# Altium footprint library WE-SHC.PcbLib: 139 footprints (part 3 of 10)
Each footprint in its own frame and in the unit in brackets; x right, y up, seen from the top. Pads: shape width x height; smd on the part's side, far side on the other; paste and mask are expansions set on the pad; w line width, h text height; cw(c..) or ccw(c..) is an arc to the next point about the centre after c.
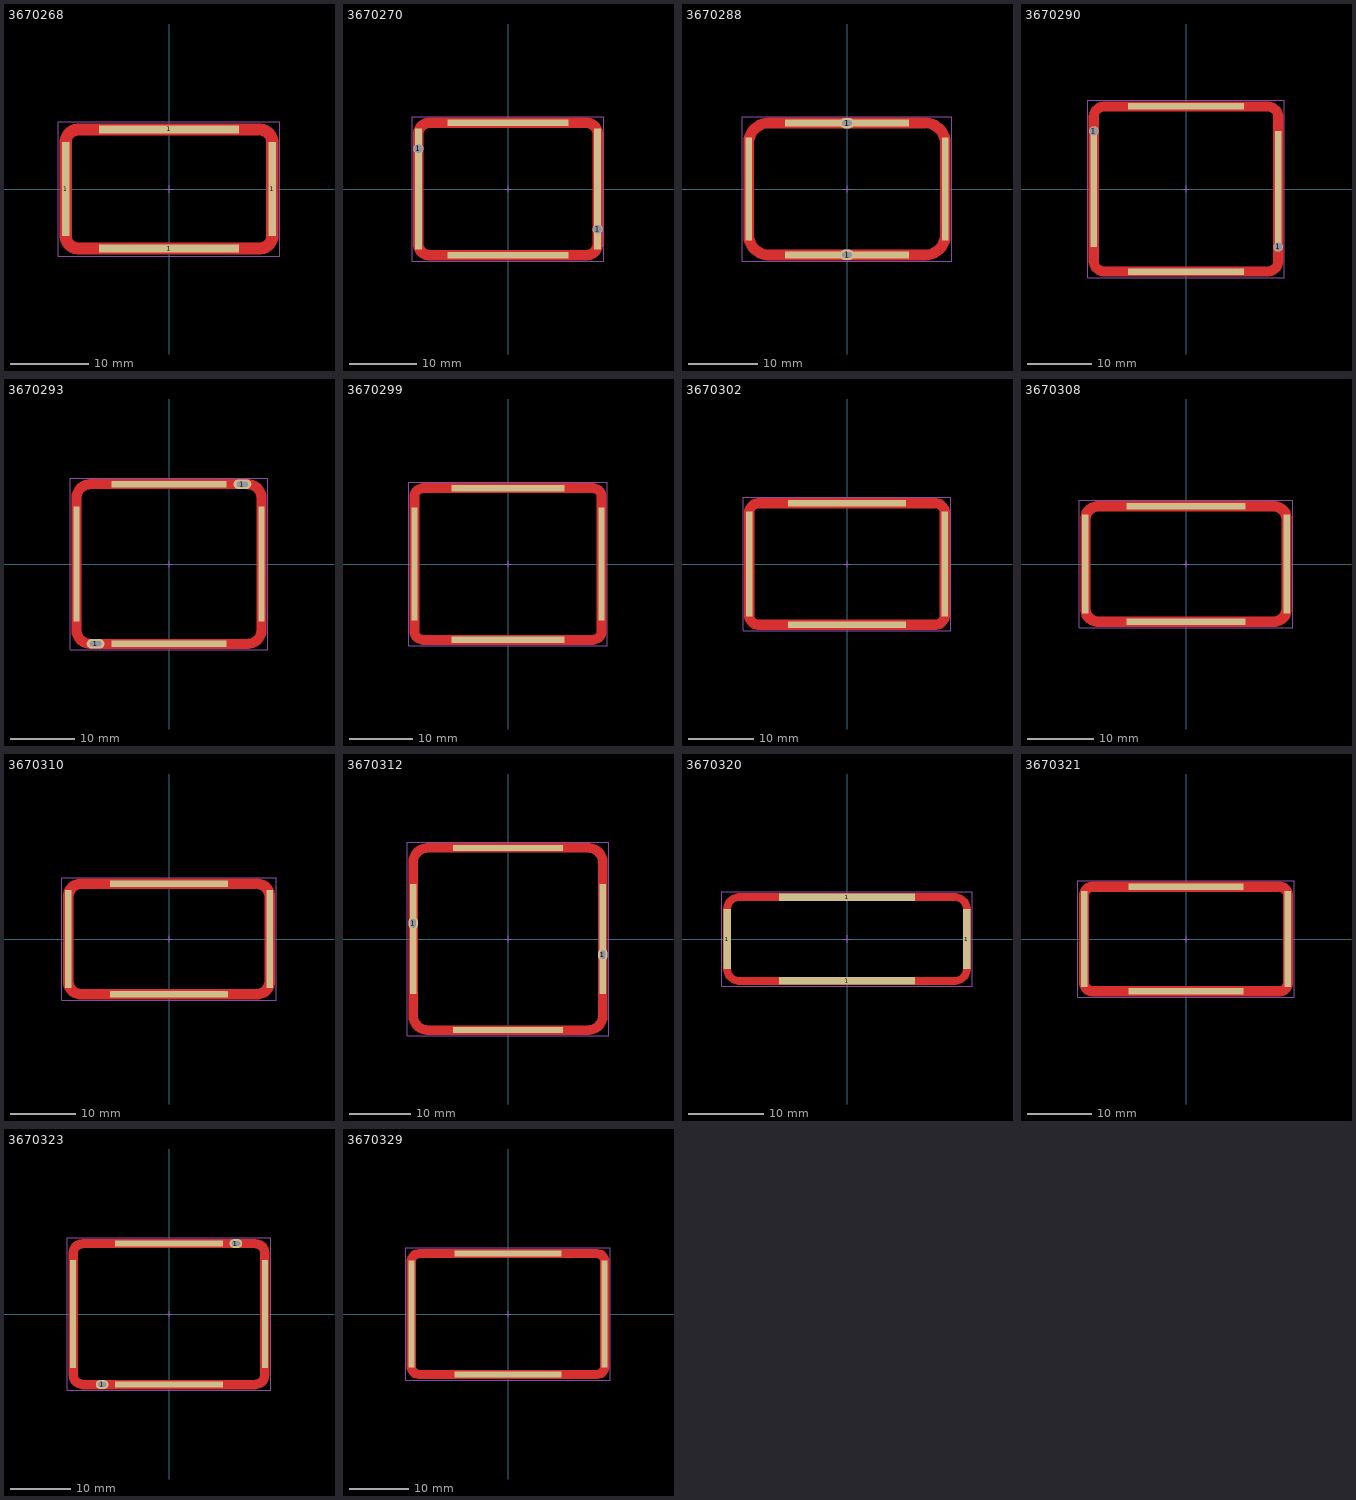
[diagram p2: the footprints below, top view; thin cyan lines are the x and y axes]

## 3670268 [mm] "Shielding Cabinet, SMT Frame Seamless, 26.8x15.6x2.5mm"
height 2.5
pads (4):
  rect 1x12 smd paste-2539.97 mask-2222: 1(-13.25,0) 1(13.25,0)
  rect 18x1 smd paste-2539.97 mask-2222: 1(0,-7.65) 1(0,7.65)
Top Layer:
  region: -14,-1 -14,6 -14,6.236 -13.908,6.7 -13.727,7.137 -13.464,7.53 -13.13,7.864 -12.737,8.127 -12.3,8.308 -11.836,8.4 -11.6,8.4 11.6,8.4 11.836,8.4 12.3,8.308 12.737,8.127 13.13,7.864 13.464,7.53 13.727,7.137 13.908,6.7 14,6.236 14,6 14,-1 12.5,-1 12.5,6 12.496,6.088 12.461,6.261 12.394,6.424 12.296,6.571 12.171,6.696 12.024,6.794 11.861,6.861 11.688,6.896 11.6,6.9 -11.6,6.9 -11.688,6.896 -11.861,6.861 -12.024,6.794 -12.171,6.696 -12.296,6.571 -12.394,6.424 -12.461,6.261 -12.496,6.088 -12.5,6 -12.5,-1
  region: -14,-0.25 -14,-6 -14,-6.236 -13.908,-6.7 -13.727,-7.137 -13.464,-7.53 -13.13,-7.864 -12.737,-8.127 -12.3,-8.308 -11.836,-8.4 -11.6,-8.4 11.6,-8.4 11.836,-8.4 12.3,-8.308 12.737,-8.127 13.13,-7.864 13.464,-7.53 13.727,-7.137 13.908,-6.7 14,-6.236 14,-6 14,-0.25 12.5,-0.25 12.5,-6 12.496,-6.088 12.461,-6.261 12.394,-6.424 12.296,-6.571 12.171,-6.696 12.024,-6.794 11.861,-6.861 11.688,-6.896 11.6,-6.9 -11.6,-6.9 -11.688,-6.896 -11.861,-6.861 -12.024,-6.794 -12.171,-6.696 -12.296,-6.571 -12.394,-6.424 -12.461,-6.261 -12.496,-6.088 -12.5,-6 -12.5,-0.25
Top Paste:
  region: -14,-0.25 -14,-6 -14,-6.236 -13.908,-6.7 -13.727,-7.137 -13.464,-7.53 -13.13,-7.864 -12.737,-8.127 -12.3,-8.308 -11.836,-8.4 -11.6,-8.4 11.6,-8.4 11.836,-8.4 12.3,-8.308 12.737,-8.127 13.13,-7.864 13.464,-7.53 13.727,-7.137 13.908,-6.7 14,-6.236 14,-6 14,-0.25 12.5,-0.25 12.5,-6 12.496,-6.088 12.461,-6.261 12.394,-6.424 12.296,-6.571 12.171,-6.696 12.024,-6.794 11.861,-6.861 11.688,-6.896 11.6,-6.9 -11.6,-6.9 -11.688,-6.896 -11.861,-6.861 -12.024,-6.794 -12.171,-6.696 -12.296,-6.571 -12.394,-6.424 -12.461,-6.261 -12.496,-6.088 -12.5,-6 -12.5,-0.25
  region: -14,0.25 -14,6 -14,6.236 -13.908,6.7 -13.727,7.137 -13.464,7.53 -13.13,7.864 -12.737,8.127 -12.3,8.308 -11.836,8.4 -11.6,8.4 11.6,8.4 11.836,8.4 12.3,8.308 12.737,8.127 13.13,7.864 13.464,7.53 13.727,7.137 13.908,6.7 14,6.236 14,6 14,0.25 12.5,0.25 12.5,6 12.496,6.088 12.461,6.261 12.394,6.424 12.296,6.571 12.171,6.696 12.024,6.794 11.861,6.861 11.688,6.896 11.6,6.9 -11.6,6.9 -11.688,6.896 -11.861,6.861 -12.024,6.794 -12.171,6.696 -12.296,6.571 -12.394,6.424 -12.461,6.261 -12.496,6.088 -12.5,6 -12.5,0.25
Assembly Notes:
  text "recommended tin paste thickness=0.5mm / customer to define the final stencil gap" at -5,-10 h0.4
Top Component Outline:
  lines w0.1: -13.4,-6.05 ccw(c-11.65,-6.05) -11.65,-7.8 11.65,-7.8 ccw(c11.65,-6.05) 13.4,-6.05 13.4,6.05 ccw(c11.65,6.05) 11.65,7.8 -11.65,7.8 ccw(c-11.65,6.05) -13.4,6.05 -13.4,-6.05
Top 3D Body:
  lines w0.1: -13.4,-6.05 ccw(c-11.65,-6.05) -11.65,-7.8 11.65,-7.8 ccw(c11.65,-6.05) 13.4,-6.05 13.4,6.05 ccw(c11.65,6.05) 11.65,7.8 -11.65,7.8 ccw(c-11.65,6.05) -13.4,6.05 -13.4,-6.05
Top Courtyard:
  lines w0.05: -14.2,-8.6 -14.2,8.6 14.2,8.6 14.2,-8.6 -14.2,-8.6
Top Component Center:
  lines w0.05: -0.5,0 0.5,0 ; 0,-0.5 0,0.5
Top Designator (Mech19):
  text ".Designator" at -7.498,-0.5 h1.5
3D body "3670268.stp": height 2.5, standoff 0, extent -13.4,-7.8 13.4,7.8

## 3670270 [mm] "Shielding Cabinet, SMT Frame Seamless, 27x20x6mm"
height 6
pads (6):
  rect 1x18 smd paste-2539.97 mask-2222: 1(-13.35,0) 1(13.35,0)
  round 1.5 hole 1.3: 1(-13.35,6) 1(13.35,-6)
  rect 18x1 smd paste-2539.97 mask-2222: 1(0,-9.85) 1(0,9.85)
Top Layer:
  region: 14.1,-8.2 14.1,8.2 14.1,8.436 14.008,8.9 13.827,9.337 13.564,9.73 13.23,10.064 12.837,10.327 12.4,10.508 11.936,10.6 11.7,10.6 0.25,10.6 0.25,9.1 11.7,9.1 11.788,9.096 11.961,9.061 12.124,8.994 12.271,8.896 12.396,8.771 12.494,8.624 12.561,8.461 12.596,8.288 12.6,8.2 12.6,-8.2 12.596,-8.288 12.561,-8.461 12.494,-8.624 12.396,-8.771 12.271,-8.896 12.124,-8.994 11.961,-9.061 11.788,-9.096 11.7,-9.1 0.25,-9.1 0.25,-10.6 11.7,-10.6 11.936,-10.6 12.4,-10.508 12.837,-10.327 13.23,-10.064 13.564,-9.73 13.827,-9.337 14.008,-8.9 14.1,-8.436
  region: -14.1,-8.2 -14.1,8.2 -14.1,8.436 -14.008,8.9 -13.827,9.337 -13.564,9.73 -13.23,10.064 -12.837,10.327 -12.4,10.508 -11.936,10.6 -11.7,10.6 1,10.6 1,9.1 -11.7,9.1 -11.788,9.096 -11.961,9.061 -12.124,8.994 -12.271,8.896 -12.396,8.771 -12.494,8.624 -12.561,8.461 -12.596,8.288 -12.6,8.2 -12.6,-8.2 -12.596,-8.288 -12.561,-8.461 -12.494,-8.624 -12.396,-8.771 -12.271,-8.896 -12.124,-8.994 -11.961,-9.061 -11.788,-9.096 -11.7,-9.1 1,-9.1 1,-10.6 -11.7,-10.6 -11.936,-10.6 -12.4,-10.508 -12.837,-10.327 -13.23,-10.064 -13.564,-9.73 -13.827,-9.337 -14.008,-8.9 -14.1,-8.436
Top Paste:
  region: -14.1,-8.2 -14.1,8.2 -14.1,8.436 -14.008,8.9 -13.827,9.337 -13.564,9.73 -13.23,10.064 -12.837,10.327 -12.4,10.508 -11.936,10.6 -11.7,10.6 -0.25,10.6 -0.25,9.1 -11.7,9.1 -11.788,9.096 -11.961,9.061 -12.124,8.994 -12.271,8.896 -12.396,8.771 -12.494,8.624 -12.561,8.461 -12.596,8.288 -12.6,8.2 -12.6,-8.2 -12.596,-8.288 -12.561,-8.461 -12.494,-8.624 -12.396,-8.771 -12.271,-8.896 -12.124,-8.994 -11.961,-9.061 -11.788,-9.096 -11.7,-9.1 -0.25,-9.1 -0.25,-10.6 -11.7,-10.6 -11.936,-10.6 -12.4,-10.508 -12.837,-10.327 -13.23,-10.064 -13.564,-9.73 -13.827,-9.337 -14.008,-8.9 -14.1,-8.436
  region: 14.1,-8.2 14.1,8.2 14.1,8.436 14.008,8.9 13.827,9.337 13.564,9.73 13.23,10.064 12.837,10.327 12.4,10.508 11.936,10.6 11.7,10.6 0.25,10.6 0.25,9.1 11.7,9.1 11.788,9.096 11.961,9.061 12.124,8.994 12.271,8.896 12.396,8.771 12.494,8.624 12.561,8.461 12.596,8.288 12.6,8.2 12.6,-8.2 12.596,-8.288 12.561,-8.461 12.494,-8.624 12.396,-8.771 12.271,-8.896 12.124,-8.994 11.961,-9.061 11.788,-9.096 11.7,-9.1 0.25,-9.1 0.25,-10.6 11.7,-10.6 11.936,-10.6 12.4,-10.508 12.837,-10.327 13.23,-10.064 13.564,-9.73 13.827,-9.337 14.008,-8.9 14.1,-8.436
Assembly Notes:
  text "recommended tin paste thickness=0.5mm / customer to define the final stencil gap" at -5.6,-12.2 h0.4
Top Component Outline:
  lines w0.1: -13.5,-8.25 ccw(c-11.75,-8.25) -11.75,-10 11.75,-10 ccw(c11.75,-8.25) 13.5,-8.25 13.5,8.25 ccw(c11.75,8.25) 11.75,10 -11.75,10 ccw(c-11.75,8.25) -13.5,8.25 -13.5,-8.25
Top 3D Body:
  lines w0.1: -13.5,-8.25 ccw(c-11.75,-8.25) -11.75,-10 11.75,-10 ccw(c11.75,-8.25) 13.5,-8.25 13.5,8.25 ccw(c11.75,8.25) 11.75,10 -11.75,10 ccw(c-11.75,8.25) -13.5,8.25 -13.5,-8.25
Top Courtyard:
  lines w0.05: -14.3,-10.8 14.3,-10.8 14.3,10.8 -14.3,10.8 -14.3,-10.8
Top Component Center:
  lines w0.05: -0.5,0 0.5,0 ; 0,-0.5 0,0.5
Top Designator (Mech19):
  text ".Designator" at -7.498,-0.5 h1.5
3D body "3670270.stp": height 6, standoff -1, extent -13.5,-10 13.5,10

## 3670288 [mm] "Shielding Cabinet, SMT Frame Seamless, 28.8x19.4x5mm"
height 5
pads (6):
  rect 1x15 smd paste-2539.97 mask-2222: 1(-14.25,0) 1(14.25,0)
  rect 18x1 smd paste-2539.97 mask-2222: 1(0,-9.55) 1(0,9.55)
  oval 2.1x1.5 hole 0.8 slot 1.4 at 0 deg: 1(0,-9.55) 1(0,9.55)
Top Layer:
  region: -15,-1 -15,6.7 -15,6.936 -14.938,7.404 -14.816,7.86 -14.636,8.296 -14.4,8.704 -14.112,9.079 -13.779,9.412 -13.404,9.7 -12.996,9.936 -12.56,10.116 -12.104,10.238 -11.636,10.3 -11.4,10.3 11.4,10.3 11.636,10.3 12.104,10.238 12.56,10.116 12.996,9.936 13.404,9.7 13.779,9.412 14.112,9.079 14.4,8.704 14.636,8.296 14.816,7.86 14.938,7.404 15,6.936 15,6.7 15,-1 13.5,-1 13.5,6.7 13.49,6.906 13.41,7.31 13.252,7.69 13.023,8.032 12.732,8.323 12.39,8.552 12.01,8.71 11.606,8.79 11.4,8.8 -11.4,8.8 -11.606,8.79 -12.01,8.71 -12.39,8.552 -12.732,8.323 -13.023,8.032 -13.252,7.69 -13.41,7.31 -13.49,6.906 -13.5,6.7 -13.5,-1
  region: -15,-0.25 -15,-6.7 -15,-6.936 -14.938,-7.404 -14.816,-7.86 -14.636,-8.296 -14.4,-8.704 -14.112,-9.079 -13.779,-9.412 -13.404,-9.7 -12.996,-9.936 -12.56,-10.116 -12.104,-10.238 -11.636,-10.3 -11.4,-10.3 11.4,-10.3 11.636,-10.3 12.104,-10.238 12.56,-10.116 12.996,-9.936 13.404,-9.7 13.779,-9.412 14.112,-9.079 14.4,-8.704 14.636,-8.296 14.816,-7.86 14.938,-7.404 15,-6.936 15,-6.7 15,-0.25 13.5,-0.25 13.5,-6.7 13.49,-6.906 13.41,-7.31 13.252,-7.69 13.023,-8.032 12.732,-8.323 12.39,-8.552 12.01,-8.71 11.606,-8.79 11.4,-8.8 -11.4,-8.8 -11.606,-8.79 -12.01,-8.71 -12.39,-8.552 -12.732,-8.323 -13.023,-8.032 -13.252,-7.69 -13.41,-7.31 -13.49,-6.906 -13.5,-6.7 -13.5,-0.25
Top Paste:
  region: -15,-0.25 -15,-6.7 -15,-6.936 -14.938,-7.404 -14.816,-7.86 -14.636,-8.296 -14.4,-8.704 -14.112,-9.079 -13.779,-9.412 -13.404,-9.7 -12.996,-9.936 -12.56,-10.116 -12.104,-10.238 -11.636,-10.3 -11.4,-10.3 11.4,-10.3 11.636,-10.3 12.104,-10.238 12.56,-10.116 12.996,-9.936 13.404,-9.7 13.779,-9.412 14.112,-9.079 14.4,-8.704 14.636,-8.296 14.816,-7.86 14.938,-7.404 15,-6.936 15,-6.7 15,-0.25 13.5,-0.25 13.5,-6.7 13.49,-6.906 13.41,-7.31 13.252,-7.69 13.023,-8.032 12.732,-8.323 12.39,-8.552 12.01,-8.71 11.606,-8.79 11.4,-8.8 -11.4,-8.8 -11.606,-8.79 -12.01,-8.71 -12.39,-8.552 -12.732,-8.323 -13.023,-8.032 -13.252,-7.69 -13.41,-7.31 -13.49,-6.906 -13.5,-6.7 -13.5,-0.25
  region: -15,0.25 -15,6.7 -15,6.936 -14.938,7.404 -14.816,7.86 -14.636,8.296 -14.4,8.704 -14.112,9.079 -13.779,9.412 -13.404,9.7 -12.996,9.936 -12.56,10.116 -12.104,10.238 -11.636,10.3 -11.4,10.3 11.4,10.3 11.636,10.3 12.104,10.238 12.56,10.116 12.996,9.936 13.404,9.7 13.779,9.412 14.112,9.079 14.4,8.704 14.636,8.296 14.816,7.86 14.938,7.404 15,6.936 15,6.7 15,0.25 13.5,0.25 13.5,6.7 13.49,6.906 13.41,7.31 13.252,7.69 13.023,8.032 12.732,8.323 12.39,8.552 12.01,8.71 11.606,8.79 11.4,8.8 -11.4,8.8 -11.606,8.79 -12.01,8.71 -12.39,8.552 -12.732,8.323 -13.023,8.032 -13.252,7.69 -13.41,7.31 -13.49,6.906 -13.5,6.7 -13.5,0.25
Assembly Notes:
  text "recommended tin paste thickness=0.5mm / customer to define the final stencil gap" at -5.6,-12.2 h0.4
Top Component Outline:
  lines w0.1: -14.4,-6.7 ccw(c-11.4,-6.7) -11.4,-9.7 11.4,-9.7 ccw(c11.4,-6.7) 14.4,-6.7 14.4,6.7 ccw(c11.4,6.7) 11.4,9.7 -11.4,9.7 ccw(c-11.4,6.7) -14.4,6.7 -14.4,-6.7
Top 3D Body:
  lines w0.1: -14.4,-6.7 ccw(c-11.4,-6.7) -11.4,-9.7 11.4,-9.7 ccw(c11.4,-6.7) 14.4,-6.7 14.4,6.7 ccw(c11.4,6.7) 11.4,9.7 -11.4,9.7 ccw(c-11.4,6.7) -14.4,6.7 -14.4,-6.7
Top Courtyard:
  lines w0.05: -15.2,-10.5 15.2,-10.5 15.2,10.5 -15.2,10.5 -15.2,-10.5
Top Component Center:
  lines w0.05: -0.5,0 0.5,0 ; 0,-0.5 0,0.5
Top Designator (Mech19):
  text ".Designator" at -7.498,-0.5 h1.5
3D body "3670288.stp": height 5, standoff -0.6, extent -14.4,-9.7 14.4,9.7

## 3670290 [mm] "Shielding Cabinet, SMT Frame Seamless, 29x26x3mm"
height 3
pads (6):
  rect 1x18 smd paste-2539.97 mask-2222: 1(-14.35,0) 1(14.35,0)
  round 1.5 hole 1.3: 1(-14.35,9) 1(14.35,-9)
  rect 18x1 smd paste-2539.97 mask-2222: 1(0,-12.85) 1(0,12.85)
Top Layer:
  region: -15.1,-11.2 -15.1,11.2 -15.1,11.436 -15.008,11.9 -14.827,12.337 -14.564,12.73 -14.23,13.064 -13.837,13.327 -13.4,13.508 -12.936,13.6 -12.7,13.6 0.9,13.6 0.9,12.1 -12.7,12.1 -12.788,12.096 -12.961,12.061 -13.124,11.994 -13.271,11.896 -13.396,11.771 -13.494,11.624 -13.561,11.461 -13.596,11.288 -13.6,11.2 -13.6,-11.2 -13.596,-11.288 -13.561,-11.461 -13.494,-11.624 -13.396,-11.771 -13.271,-11.896 -13.124,-11.994 -12.961,-12.061 -12.788,-12.096 -12.7,-12.1 0.9,-12.1 0.9,-13.6 -12.7,-13.6 -12.936,-13.6 -13.4,-13.508 -13.837,-13.327 -14.23,-13.064 -14.564,-12.73 -14.827,-12.337 -15.008,-11.9 -15.1,-11.436
  region: 15.1,-11.2 15.1,11.2 15.1,11.436 15.008,11.9 14.827,12.337 14.564,12.73 14.23,13.064 13.837,13.327 13.4,13.508 12.936,13.6 12.7,13.6 0.25,13.6 0.25,12.1 12.7,12.1 12.788,12.096 12.961,12.061 13.124,11.994 13.271,11.896 13.396,11.771 13.494,11.624 13.561,11.461 13.596,11.288 13.6,11.2 13.6,-11.2 13.596,-11.288 13.561,-11.461 13.494,-11.624 13.396,-11.771 13.271,-11.896 13.124,-11.994 12.961,-12.061 12.788,-12.096 12.7,-12.1 0.25,-12.1 0.25,-13.6 12.7,-13.6 12.936,-13.6 13.4,-13.508 13.837,-13.327 14.23,-13.064 14.564,-12.73 14.827,-12.337 15.008,-11.9 15.1,-11.436
Top Paste:
  region: 15.1,-11.2 15.1,11.2 15.1,11.436 15.008,11.9 14.827,12.337 14.564,12.73 14.23,13.064 13.837,13.327 13.4,13.508 12.936,13.6 12.7,13.6 0.25,13.6 0.25,12.1 12.7,12.1 12.788,12.096 12.961,12.061 13.124,11.994 13.271,11.896 13.396,11.771 13.494,11.624 13.561,11.461 13.596,11.288 13.6,11.2 13.6,-11.2 13.596,-11.288 13.561,-11.461 13.494,-11.624 13.396,-11.771 13.271,-11.896 13.124,-11.994 12.961,-12.061 12.788,-12.096 12.7,-12.1 0.25,-12.1 0.25,-13.6 12.7,-13.6 12.936,-13.6 13.4,-13.508 13.837,-13.327 14.23,-13.064 14.564,-12.73 14.827,-12.337 15.008,-11.9 15.1,-11.436
  region: -15.1,-11.2 -15.1,11.2 -15.1,11.436 -15.008,11.9 -14.827,12.337 -14.564,12.73 -14.23,13.064 -13.837,13.327 -13.4,13.508 -12.936,13.6 -12.7,13.6 -0.25,13.6 -0.25,12.1 -12.7,12.1 -12.788,12.096 -12.961,12.061 -13.124,11.994 -13.271,11.896 -13.396,11.771 -13.494,11.624 -13.561,11.461 -13.596,11.288 -13.6,11.2 -13.6,-11.2 -13.596,-11.288 -13.561,-11.461 -13.494,-11.624 -13.396,-11.771 -13.271,-11.896 -13.124,-11.994 -12.961,-12.061 -12.788,-12.096 -12.7,-12.1 -0.25,-12.1 -0.25,-13.6 -12.7,-13.6 -12.936,-13.6 -13.4,-13.508 -13.837,-13.327 -14.23,-13.064 -14.564,-12.73 -14.827,-12.337 -15.008,-11.9 -15.1,-11.436
Assembly Notes:
  text "recommended tin paste thickness=0.5mm / customer to define the final stencil gap" at -5.55,-15.25 h0.4
Top Component Outline:
  lines w0.1: -14.5,-11.25 ccw(c-12.75,-11.25) -12.75,-13 12.75,-13 ccw(c12.75,-11.25) 14.5,-11.25 14.5,11.25 ccw(c12.75,11.25) 12.75,13 -12.75,13 ccw(c-12.75,11.25) -14.5,11.25 -14.5,-11.25
Top 3D Body:
  lines w0.1: -14.5,-11.25 ccw(c-12.75,-11.25) -12.75,-13 12.75,-13 ccw(c12.75,-11.25) 14.5,-11.25 14.5,11.25 ccw(c12.75,11.25) 12.75,13 -12.75,13 ccw(c-12.75,11.25) -14.5,11.25 -14.5,-11.25
Top Courtyard:
  lines w0.05: -15.3,-13.8 -15.3,13.8 15.3,13.8 15.3,-13.8 -15.3,-13.8
Top Component Center:
  lines w0.05: -0.5,0 0.5,0 ; 0,-0.5 0,0.5
Top Designator (Mech19):
  text ".Designator" at -7.498,-0.5 h1.5
3D body "3670290.stp": height 3, standoff -1, extent -14.5,-13 14.5,13

## 3670293 [mm] "Shielding Cabinet, SMT Frame Seamless, 29.3x25.3x6.4mm"
height 6.4
pads (6):
  rect 1x18 smd paste-2539.97 mask-2222: 1(-14.5,0) 1(14.5,0)
  oval 2.8x1.5 hole 0.8 slot 1.8 at 0 deg: 1(-11.5,-12.5) 1(11.5,12.5)
  rect 18x1 smd paste-2539.97 mask-2222: 1(0,-12.5) 1(0,12.5)
Top Layer:
  region: -15.25,-0.25 -15.25,-10.35 -15.25,-10.54 -15.2,-10.917 -15.102,-11.284 -14.957,-11.635 -14.766,-11.965 -14.535,-12.266 -14.266,-12.535 -13.965,-12.766 -13.635,-12.957 -13.284,-13.102 -12.917,-13.2 -12.54,-13.25 -12.35,-13.25 12.35,-13.25 12.54,-13.25 12.917,-13.2 13.284,-13.102 13.635,-12.957 13.965,-12.766 14.266,-12.535 14.535,-12.266 14.766,-11.965 14.957,-11.635 15.102,-11.284 15.2,-10.917 15.25,-10.54 15.25,-10.35 15.25,-0.25 13.75,-0.25 13.75,-10.3 13.743,-10.442 13.688,-10.721 13.579,-10.984 13.421,-11.22 13.22,-11.421 12.984,-11.579 12.721,-11.688 12.442,-11.743 12.3,-11.75 -12.3,-11.75 -12.442,-11.743 -12.721,-11.688 -12.984,-11.579 -13.22,-11.421 -13.421,-11.22 -13.579,-10.984 -13.688,-10.721 -13.743,-10.442 -13.75,-10.3 -13.75,-0.25
  region: -15.25,-1 -15.25,10.35 -15.25,10.54 -15.2,10.917 -15.102,11.284 -14.957,11.635 -14.766,11.965 -14.535,12.266 -14.266,12.535 -13.965,12.766 -13.635,12.957 -13.284,13.102 -12.917,13.2 -12.54,13.25 -12.35,13.25 12.35,13.25 12.54,13.25 12.917,13.2 13.284,13.102 13.635,12.957 13.965,12.766 14.266,12.535 14.535,12.266 14.766,11.965 14.957,11.635 15.102,11.284 15.2,10.917 15.25,10.54 15.25,10.35 15.25,-1 13.75,-1 13.75,10.3 13.743,10.442 13.688,10.721 13.579,10.984 13.421,11.22 13.22,11.421 12.984,11.579 12.721,11.688 12.442,11.743 12.3,11.75 -12.3,11.75 -12.442,11.743 -12.721,11.688 -12.984,11.579 -13.22,11.421 -13.421,11.22 -13.579,10.984 -13.688,10.721 -13.743,10.442 -13.75,10.3 -13.75,-1
Top Paste:
  region: -15.25,0.25 -15.25,10.35 -15.25,10.54 -15.2,10.917 -15.102,11.284 -14.957,11.635 -14.766,11.965 -14.535,12.266 -14.266,12.535 -13.965,12.766 -13.635,12.957 -13.284,13.102 -12.917,13.2 -12.54,13.25 -12.35,13.25 12.35,13.25 12.54,13.25 12.917,13.2 13.284,13.102 13.635,12.957 13.965,12.766 14.266,12.535 14.535,12.266 14.766,11.965 14.957,11.635 15.102,11.284 15.2,10.917 15.25,10.54 15.25,10.35 15.25,0.25 13.75,0.25 13.75,10.3 13.743,10.442 13.688,10.721 13.579,10.984 13.421,11.22 13.22,11.421 12.984,11.579 12.721,11.688 12.442,11.743 12.3,11.75 -12.3,11.75 -12.442,11.743 -12.721,11.688 -12.984,11.579 -13.22,11.421 -13.421,11.22 -13.579,10.984 -13.688,10.721 -13.743,10.442 -13.75,10.3 -13.75,0.25
  region: -15.25,-0.25 -15.25,-10.35 -15.25,-10.54 -15.2,-10.917 -15.102,-11.284 -14.957,-11.635 -14.766,-11.965 -14.535,-12.266 -14.266,-12.535 -13.965,-12.766 -13.635,-12.957 -13.284,-13.102 -12.917,-13.2 -12.54,-13.25 -12.35,-13.25 12.35,-13.25 12.54,-13.25 12.917,-13.2 13.284,-13.102 13.635,-12.957 13.965,-12.766 14.266,-12.535 14.535,-12.266 14.766,-11.965 14.957,-11.635 15.102,-11.284 15.2,-10.917 15.25,-10.54 15.25,-10.35 15.25,-0.25 13.75,-0.25 13.75,-10.3 13.743,-10.442 13.688,-10.721 13.579,-10.984 13.421,-11.22 13.22,-11.421 12.984,-11.579 12.721,-11.688 12.442,-11.743 12.3,-11.75 -12.3,-11.75 -12.442,-11.743 -12.721,-11.688 -12.984,-11.579 -13.22,-11.421 -13.421,-11.22 -13.579,-10.984 -13.688,-10.721 -13.743,-10.442 -13.75,-10.3 -13.75,-0.25
Assembly Notes:
  text "recommended tin paste thickness=0.5mm / customer to define the final stencil gap" at -5.7,-14.8 h0.4
Top Component Outline:
  lines w0.1: -14.65,-10.4 ccw(c-12.4,-10.4) -12.4,-12.65 12.4,-12.65 ccw(c12.4,-10.4) 14.65,-10.4 14.65,10.4 ccw(c12.4,10.4) 12.4,12.65 -12.4,12.65 ccw(c-12.4,10.4) -14.65,10.4 -14.65,-10.4
Top 3D Body:
  lines w0.1: -14.65,-10.4 ccw(c-12.4,-10.4) -12.4,-12.65 12.4,-12.65 ccw(c12.4,-10.4) 14.65,-10.4 14.65,10.4 ccw(c12.4,10.4) 12.4,12.65 -12.4,12.65 ccw(c-12.4,10.4) -14.65,10.4 -14.65,-10.4
Top Courtyard:
  lines w0.05: -15.45,-13.45 -15.45,13.45 15.45,13.45 15.45,-13.45 -15.45,-13.45
Top Component Center:
  lines w0.05: -0.5,0 0.5,0 ; 0,-0.5 0,0.5
Top Designator (Mech19):
  text ".Designator" at -7.498,-0.5 h1.5
3D body "3670293.stp": height 6.4, standoff -1, extent -14.65,-12.65 14.65,12.65

## 3670299 [mm] "Shielding Cabinet, SMT Frame Seamless, 30x24.4x3.5mm"
height 3.5
pads (4):
  rect 1x18 smd paste-2539.97 mask-2222: 1(-14.85,0) 1(14.85,0)
  rect 18x1 smd paste-2539.97 mask-2222: 1(0,-12.05) 1(0,12.05)
Top Layer:
  region: -15.6,-0.25 -15.6,-10.7 -15.6,-10.907 -15.519,-11.313 -15.361,-11.695 -15.131,-12.039 -14.839,-12.331 -14.495,-12.561 -14.113,-12.719 -13.707,-12.8 -13.5,-12.8 13.5,-12.8 13.707,-12.8 14.113,-12.719 14.495,-12.561 14.839,-12.331 15.131,-12.039 15.361,-11.695 15.519,-11.313 15.6,-10.907 15.6,-10.7 15.6,-0.25 14.1,-0.25 14.1,-10.7 14.088,-10.817 13.999,-11.033 13.833,-11.199 13.617,-11.288 13.5,-11.3 -13.5,-11.3 -13.617,-11.288 -13.833,-11.199 -13.999,-11.033 -14.088,-10.817 -14.1,-10.7 -14.1,-0.25
  region: -15.6,-1 -15.6,10.7 -15.6,10.907 -15.519,11.313 -15.361,11.695 -15.131,12.039 -14.839,12.331 -14.495,12.561 -14.113,12.719 -13.707,12.8 -13.5,12.8 13.5,12.8 13.707,12.8 14.113,12.719 14.495,12.561 14.839,12.331 15.131,12.039 15.361,11.695 15.519,11.313 15.6,10.907 15.6,10.7 15.6,-1 14.1,-1 14.1,10.7 14.088,10.817 13.999,11.033 13.833,11.199 13.617,11.288 13.5,11.3 -13.5,11.3 -13.617,11.288 -13.833,11.199 -13.999,11.033 -14.088,10.817 -14.1,10.7 -14.1,-1
Top Paste:
  region: -15.6,0.25 -15.6,10.7 -15.6,10.907 -15.519,11.313 -15.361,11.695 -15.131,12.039 -14.839,12.331 -14.495,12.561 -14.113,12.719 -13.707,12.8 -13.5,12.8 13.5,12.8 13.707,12.8 14.113,12.719 14.495,12.561 14.839,12.331 15.131,12.039 15.361,11.695 15.519,11.313 15.6,10.907 15.6,10.7 15.6,0.25 14.1,0.25 14.1,10.7 14.088,10.817 13.999,11.033 13.833,11.199 13.617,11.288 13.5,11.3 -13.5,11.3 -13.617,11.288 -13.833,11.199 -13.999,11.033 -14.088,10.817 -14.1,10.7 -14.1,0.25
  region: -15.6,-0.25 -15.6,-10.7 -15.6,-10.907 -15.519,-11.313 -15.361,-11.695 -15.131,-12.039 -14.839,-12.331 -14.495,-12.561 -14.113,-12.719 -13.707,-12.8 -13.5,-12.8 13.5,-12.8 13.707,-12.8 14.113,-12.719 14.495,-12.561 14.839,-12.331 15.131,-12.039 15.361,-11.695 15.519,-11.313 15.6,-10.907 15.6,-10.7 15.6,-0.25 14.1,-0.25 14.1,-10.7 14.088,-10.817 13.999,-11.033 13.833,-11.199 13.617,-11.288 13.5,-11.3 -13.5,-11.3 -13.617,-11.288 -13.833,-11.199 -13.999,-11.033 -14.088,-10.817 -14.1,-10.7 -14.1,-0.25
Assembly Notes:
  text "recommended tin paste thickness=0.5mm / customer to define the final stencil gap" at -5.75,-14.45 h0.4
Top Component Outline:
  lines w0.1: -15,-10.7 ccw(c-13.5,-10.7) -13.5,-12.2 13.5,-12.2 ccw(c13.5,-10.7) 15,-10.7 15,10.7 ccw(c13.5,10.7) 13.5,12.2 -13.5,12.2 ccw(c-13.5,10.7) -15,10.7 -15,-10.7
Top 3D Body:
  lines w0.1: -15,-10.7 ccw(c-13.5,-10.7) -13.5,-12.2 13.5,-12.2 ccw(c13.5,-10.7) 15,-10.7 15,10.7 ccw(c13.5,10.7) 13.5,12.2 -13.5,12.2 ccw(c-13.5,10.7) -15,10.7 -15,-10.7
Top Courtyard:
  lines w0.05: -15.8,-13 15.8,-13 15.8,13 -15.8,13 -15.8,-13
Top Component Center:
  lines w0.05: -0.5,0 0.5,0 ; 0,-0.5 0,0.5
Top Designator (Mech19):
  text ".Designator" at -7.498,-0.5 h1.5
3D body "3670299.stp": height 3.5, standoff 0, extent -15,-12.2 15,12.2

## 3670302 [mm] "Shielding Cabinet, SMT Frame Seamless, 30.2x18.9x3mm"
height 3
pads (4):
  rect 1x16 smd paste-2539.97 mask-2222: 1(-14.95,0) 1(14.95,0)
  rect 18x1 smd paste-2539.97 mask-2222: 1(0,-9.3) 1(0,9.3)
Top Layer:
  region: -15.7,-0.25 -15.7,-7.85 -15.7,-8.067 -15.615,-8.492 -15.45,-8.892 -15.209,-9.252 -14.902,-9.559 -14.542,-9.8 -14.142,-9.965 -13.717,-10.05 -13.5,-10.05 13.5,-10.05 13.717,-10.05 14.142,-9.965 14.542,-9.8 14.902,-9.559 15.209,-9.252 15.45,-8.892 15.615,-8.492 15.7,-8.067 15.7,-7.85 15.7,-0.25 14.2,-0.25 14.2,-7.85 14.197,-7.919 14.17,-8.053 14.117,-8.18 14.041,-8.294 13.944,-8.391 13.83,-8.467 13.703,-8.52 13.569,-8.547 13.5,-8.55 -13.5,-8.55 -13.569,-8.547 -13.703,-8.52 -13.83,-8.467 -13.944,-8.391 -14.041,-8.294 -14.117,-8.18 -14.17,-8.053 -14.197,-7.919 -14.2,-7.85 -14.2,-0.25
  region: -15.7,-1 -15.7,7.85 -15.7,8.067 -15.615,8.492 -15.45,8.892 -15.209,9.252 -14.902,9.559 -14.542,9.8 -14.142,9.965 -13.717,10.05 -13.5,10.05 13.5,10.05 13.717,10.05 14.142,9.965 14.542,9.8 14.902,9.559 15.209,9.252 15.45,8.892 15.615,8.492 15.7,8.067 15.7,7.85 15.7,-1 14.2,-1 14.2,7.85 14.197,7.919 14.17,8.053 14.117,8.18 14.041,8.294 13.944,8.391 13.83,8.467 13.703,8.52 13.569,8.547 13.5,8.55 -13.5,8.55 -13.569,8.547 -13.703,8.52 -13.83,8.467 -13.944,8.391 -14.041,8.294 -14.117,8.18 -14.17,8.053 -14.197,7.919 -14.2,7.85 -14.2,-1
Top Paste:
  region: -15.7,0.25 -15.7,7.85 -15.7,8.067 -15.615,8.492 -15.45,8.892 -15.209,9.252 -14.902,9.559 -14.542,9.8 -14.142,9.965 -13.717,10.05 -13.5,10.05 13.5,10.05 13.717,10.05 14.142,9.965 14.542,9.8 14.902,9.559 15.209,9.252 15.45,8.892 15.615,8.492 15.7,8.067 15.7,7.85 15.7,0.25 14.2,0.25 14.2,7.85 14.197,7.919 14.17,8.053 14.117,8.18 14.041,8.294 13.944,8.391 13.83,8.467 13.703,8.52 13.569,8.547 13.5,8.55 -13.5,8.55 -13.569,8.547 -13.703,8.52 -13.83,8.467 -13.944,8.391 -14.041,8.294 -14.117,8.18 -14.17,8.053 -14.197,7.919 -14.2,7.85 -14.2,0.25
  region: -15.7,-0.25 -15.7,-7.85 -15.7,-8.067 -15.615,-8.492 -15.45,-8.892 -15.209,-9.252 -14.902,-9.559 -14.542,-9.8 -14.142,-9.965 -13.717,-10.05 -13.5,-10.05 13.5,-10.05 13.717,-10.05 14.142,-9.965 14.542,-9.8 14.902,-9.559 15.209,-9.252 15.45,-8.892 15.615,-8.492 15.7,-8.067 15.7,-7.85 15.7,-0.25 14.2,-0.25 14.2,-7.85 14.197,-7.919 14.17,-8.053 14.117,-8.18 14.041,-8.294 13.944,-8.391 13.83,-8.467 13.703,-8.52 13.569,-8.547 13.5,-8.55 -13.5,-8.55 -13.569,-8.547 -13.703,-8.52 -13.83,-8.467 -13.944,-8.391 -14.041,-8.294 -14.117,-8.18 -14.17,-8.053 -14.197,-7.919 -14.2,-7.85 -14.2,-0.25
Assembly Notes:
  text "recommended tin paste thickness=0.5mm / customer to define the final stencil gap" at -6.15,-11.7 h0.4
Top Component Outline:
  lines w0.1: -15.1,-7.95 ccw(c-13.6,-7.95) -13.6,-9.45 13.6,-9.45 ccw(c13.6,-7.95) 15.1,-7.95 15.1,7.95 ccw(c13.6,7.95) 13.6,9.45 -13.6,9.45 ccw(c-13.6,7.95) -15.1,7.95 -15.1,-7.95
Top 3D Body:
  lines w0.1: -15.1,-7.95 ccw(c-13.6,-7.95) -13.6,-9.45 13.6,-9.45 ccw(c13.6,-7.95) 15.1,-7.95 15.1,7.95 ccw(c13.6,7.95) 13.6,9.45 -13.6,9.45 ccw(c-13.6,7.95) -15.1,7.95 -15.1,-7.95
Top Courtyard:
  lines w0.05: -15.9,-10.25 15.9,-10.25 15.9,10.25 -15.9,10.25 -15.9,-10.25
Top Component Center:
  lines w0.05: -0.5,0 0.5,0 ; 0,-0.5 0,0.5
Top Designator (Mech19):
  text ".Designator" at -7.498,-0.5 h1.5
3D body "3670302.stp": height 3, standoff 0, extent -15.1,-9.45 15.1,9.45

## 3670308 [mm] "Shielding Cabinet, SMT Frame Seamless, 30.8x17.8x4.4mm"
height 4.4
pads (4):
  rect 1x15 smd paste-2539.97 mask-2222: 1(-15.25,0) 1(15.25,0)
  rect 18x1 smd paste-2539.97 mask-2222: 1(0,-8.75) 1(0,8.75)
Top Layer:
  region: -16,-0.25 -16,-6.9 -16,-7.156 -15.9,-7.658 -15.704,-8.132 -15.42,-8.557 -15.057,-8.92 -14.632,-9.204 -14.158,-9.4 -13.656,-9.5 -13.4,-9.5 13.4,-9.5 13.656,-9.5 14.158,-9.4 14.632,-9.204 15.057,-8.92 15.42,-8.557 15.704,-8.132 15.9,-7.658 16,-7.156 16,-6.9 16,-0.25 14.5,-0.25 14.5,-6.7 14.494,-6.827 14.444,-7.077 14.346,-7.313 14.205,-7.525 14.025,-7.705 13.813,-7.846 13.577,-7.944 13.327,-7.994 13.2,-8 -13.2,-8 -13.327,-7.994 -13.577,-7.944 -13.813,-7.846 -14.025,-7.705 -14.205,-7.525 -14.346,-7.313 -14.444,-7.077 -14.494,-6.827 -14.5,-6.7 -14.5,-0.25
  region: -16,-1 -16,6.9 -16,7.156 -15.9,7.658 -15.704,8.132 -15.42,8.557 -15.057,8.92 -14.632,9.204 -14.158,9.4 -13.656,9.5 -13.4,9.5 13.4,9.5 13.656,9.5 14.158,9.4 14.632,9.204 15.057,8.92 15.42,8.557 15.704,8.132 15.9,7.658 16,7.156 16,6.9 16,-1 14.5,-1 14.5,6.7 14.494,6.827 14.444,7.077 14.346,7.313 14.205,7.525 14.025,7.705 13.813,7.846 13.577,7.944 13.327,7.994 13.2,8 -13.2,8 -13.327,7.994 -13.577,7.944 -13.813,7.846 -14.025,7.705 -14.205,7.525 -14.346,7.313 -14.444,7.077 -14.494,6.827 -14.5,6.7 -14.5,-1
Top Paste:
  region: -16,0.25 -16,6.9 -16,7.156 -15.9,7.658 -15.704,8.132 -15.42,8.557 -15.057,8.92 -14.632,9.204 -14.158,9.4 -13.656,9.5 -13.4,9.5 13.4,9.5 13.656,9.5 14.158,9.4 14.632,9.204 15.057,8.92 15.42,8.557 15.704,8.132 15.9,7.658 16,7.156 16,6.9 16,0.25 14.5,0.25 14.5,6.7 14.494,6.827 14.444,7.077 14.346,7.313 14.205,7.525 14.025,7.705 13.813,7.846 13.577,7.944 13.327,7.994 13.2,8 -13.2,8 -13.327,7.994 -13.577,7.944 -13.813,7.846 -14.025,7.705 -14.205,7.525 -14.346,7.313 -14.444,7.077 -14.494,6.827 -14.5,6.7 -14.5,0.25
  region: -16,-0.25 -16,-6.9 -16,-7.156 -15.9,-7.658 -15.704,-8.132 -15.42,-8.557 -15.057,-8.92 -14.632,-9.204 -14.158,-9.4 -13.656,-9.5 -13.4,-9.5 13.4,-9.5 13.656,-9.5 14.158,-9.4 14.632,-9.204 15.057,-8.92 15.42,-8.557 15.704,-8.132 15.9,-7.658 16,-7.156 16,-6.9 16,-0.25 14.5,-0.25 14.5,-6.7 14.494,-6.827 14.444,-7.077 14.346,-7.313 14.205,-7.525 14.025,-7.705 13.813,-7.846 13.577,-7.944 13.327,-7.994 13.2,-8 -13.2,-8 -13.327,-7.994 -13.577,-7.944 -13.813,-7.846 -14.025,-7.705 -14.205,-7.525 -14.346,-7.313 -14.444,-7.077 -14.494,-6.827 -14.5,-6.7 -14.5,-0.25
Assembly Notes:
  text "recommended tin paste thickness=0.5mm / customer to define the final stencil gap" at -6,-11.05 h0.4
Top Component Outline:
  lines w0.1: -15.4,-6.9 ccw(c-13.4,-6.9) -13.4,-8.9 13.4,-8.9 ccw(c13.4,-6.9) 15.4,-6.9 15.4,6.9 ccw(c13.4,6.9) 13.4,8.9 -13.4,8.9 ccw(c-13.4,6.9) -15.4,6.9 -15.4,-6.9
Top 3D Body:
  lines w0.1: -15.4,-6.9 ccw(c-13.4,-6.9) -13.4,-8.9 13.4,-8.9 ccw(c13.4,-6.9) 15.4,-6.9 15.4,6.9 ccw(c13.4,6.9) 13.4,8.9 -13.4,8.9 ccw(c-13.4,6.9) -15.4,6.9 -15.4,-6.9
Top Courtyard:
  lines w0.05: -16.2,-9.7 -16.2,9.7 16.2,9.7 16.2,-9.7 -16.2,-9.7
Top Component Center:
  lines w0.05: -0.5,0 0.5,0 ; 0,-0.5 0,0.5
Top Designator (Mech19):
  text ".Designator" at -7.498,-0.5 h1.5
3D body "3670308.stp": height 4.4, standoff 0, extent -15.4,-8.9 15.4,8.9

## 3670310 [mm] "Shielding Cabinet, SMT Frame Seamless, 31x17.1x3mm"
height 3
pads (4):
  rect 1x15 smd paste-2539.97 mask-2222: 1(-15.35,0) 1(15.35,0)
  rect 18x1 smd paste-2539.97 mask-2222: 1(0,-8.4) 1(0,8.4)
Top Layer:
  region: -16.1,-0.25 -16.1,-6.55 -16.1,-6.806 -16,-7.308 -15.804,-7.782 -15.52,-8.207 -15.157,-8.57 -14.732,-8.854 -14.258,-9.05 -13.756,-9.15 -13.5,-9.15 13.5,-9.15 13.756,-9.15 14.258,-9.05 14.732,-8.854 15.157,-8.57 15.52,-8.207 15.804,-7.782 16,-7.308 16.1,-6.806 16.1,-6.55 16.1,-0.25 14.6,-0.25 14.6,-6.35 14.594,-6.477 14.544,-6.727 14.446,-6.963 14.305,-7.175 14.125,-7.355 13.913,-7.496 13.677,-7.594 13.427,-7.644 13.3,-7.65 -13.3,-7.65 -13.427,-7.644 -13.677,-7.594 -13.913,-7.496 -14.125,-7.355 -14.305,-7.175 -14.446,-6.963 -14.544,-6.727 -14.594,-6.477 -14.6,-6.35 -14.6,-0.25
  region: -16.1,-1 -16.1,6.55 -16.1,6.806 -16,7.308 -15.804,7.782 -15.52,8.207 -15.157,8.57 -14.732,8.854 -14.258,9.05 -13.756,9.15 -13.5,9.15 13.5,9.15 13.756,9.15 14.258,9.05 14.732,8.854 15.157,8.57 15.52,8.207 15.804,7.782 16,7.308 16.1,6.806 16.1,6.55 16.1,-1 14.6,-1 14.6,6.35 14.594,6.477 14.544,6.727 14.446,6.963 14.305,7.175 14.125,7.355 13.913,7.496 13.677,7.594 13.427,7.644 13.3,7.65 -13.3,7.65 -13.427,7.644 -13.677,7.594 -13.913,7.496 -14.125,7.355 -14.305,7.175 -14.446,6.963 -14.544,6.727 -14.594,6.477 -14.6,6.35 -14.6,-1
Top Paste:
  region: -16.1,0.25 -16.1,6.55 -16.1,6.806 -16,7.308 -15.804,7.782 -15.52,8.207 -15.157,8.57 -14.732,8.854 -14.258,9.05 -13.756,9.15 -13.5,9.15 13.5,9.15 13.756,9.15 14.258,9.05 14.732,8.854 15.157,8.57 15.52,8.207 15.804,7.782 16,7.308 16.1,6.806 16.1,6.55 16.1,0.25 14.6,0.25 14.6,6.35 14.594,6.477 14.544,6.727 14.446,6.963 14.305,7.175 14.125,7.355 13.913,7.496 13.677,7.594 13.427,7.644 13.3,7.65 -13.3,7.65 -13.427,7.644 -13.677,7.594 -13.913,7.496 -14.125,7.355 -14.305,7.175 -14.446,6.963 -14.544,6.727 -14.594,6.477 -14.6,6.35 -14.6,0.25
  region: -16.1,-0.25 -16.1,-6.55 -16.1,-6.806 -16,-7.308 -15.804,-7.782 -15.52,-8.207 -15.157,-8.57 -14.732,-8.854 -14.258,-9.05 -13.756,-9.15 -13.5,-9.15 13.5,-9.15 13.756,-9.15 14.258,-9.05 14.732,-8.854 15.157,-8.57 15.52,-8.207 15.804,-7.782 16,-7.308 16.1,-6.806 16.1,-6.55 16.1,-0.25 14.6,-0.25 14.6,-6.35 14.594,-6.477 14.544,-6.727 14.446,-6.963 14.305,-7.175 14.125,-7.355 13.913,-7.496 13.677,-7.594 13.427,-7.644 13.3,-7.65 -13.3,-7.65 -13.427,-7.644 -13.677,-7.594 -13.913,-7.496 -14.125,-7.355 -14.305,-7.175 -14.446,-6.963 -14.544,-6.727 -14.594,-6.477 -14.6,-6.35 -14.6,-0.25
Assembly Notes:
  text "recommended tin paste thickness=0.5mm / customer to define the final stencil gap" at -4.75,-10.75 h0.4
Top Component Outline:
  lines w0.1: -15.5,-6.55 ccw(c-13.5,-6.55) -13.5,-8.55 13.5,-8.55 ccw(c13.5,-6.55) 15.5,-6.55 15.5,6.55 ccw(c13.5,6.55) 13.5,8.55 -13.5,8.55 ccw(c-13.5,6.55) -15.5,6.55 -15.5,-6.55
Top 3D Body:
  lines w0.1: -15.5,-6.55 ccw(c-13.5,-6.55) -13.5,-8.55 13.5,-8.55 ccw(c13.5,-6.55) 15.5,-6.55 15.5,6.55 ccw(c13.5,6.55) 13.5,8.55 -13.5,8.55 ccw(c-13.5,6.55) -15.5,6.55 -15.5,-6.55
Top Courtyard:
  lines w0.05: -16.3,-9.35 16.3,-9.35 16.3,9.35 -16.3,9.35 -16.3,-9.35
Top Component Center:
  lines w0.05: -0.5,0 0.5,0 ; 0,-0.5 0,0.5
Top Designator (Mech19):
  text ".Designator" at -7.498,-0.5 h1.5
3D body "3670310.stp": height 3, standoff 0, extent -15.5,-8.55 15.5,8.55

## 3670312 [mm] "Shielding Cabinet, SMT Frame Seamless, 31.2x30x5mm"
height 5
pads (6):
  rect 1x18 smd paste-2539.97 mask-2222: 1(-15.45,0) 1(15.45,0)
  oval 1.5x2.1 hole 0.8 slot 1.4 at 90 deg: 1(-15.45,2.55) 1(15.45,-2.55)
  rect 18x1 smd paste-2539.97 mask-2222: 1(0,-14.85) 1(0,14.85)
Top Layer:
  region: 16.2,-12.5 16.2,12.5 16.2,12.703 16.147,13.106 16.042,13.499 15.886,13.874 15.683,14.226 15.436,14.548 15.148,14.836 14.826,15.083 14.474,15.286 14.099,15.442 13.706,15.547 13.303,15.6 13.1,15.6 0.25,15.6 0.25,14.1 13.1,14.1 13.257,14.092 13.564,14.031 13.854,13.911 14.115,13.737 14.337,13.515 14.511,13.254 14.631,12.964 14.692,12.657 14.7,12.5 14.7,-12.5 14.692,-12.657 14.631,-12.964 14.511,-13.254 14.337,-13.515 14.115,-13.737 13.854,-13.911 13.564,-14.031 13.257,-14.092 13.1,-14.1 0.25,-14.1 0.25,-15.6 13.1,-15.6 13.303,-15.6 13.706,-15.547 14.099,-15.442 14.474,-15.286 14.826,-15.083 15.148,-14.836 15.436,-14.548 15.683,-14.226 15.886,-13.874 16.042,-13.499 16.147,-13.106 16.2,-12.703
  region: -16.2,-12.5 -16.2,12.5 -16.2,12.703 -16.147,13.106 -16.042,13.499 -15.886,13.874 -15.683,14.226 -15.436,14.548 -15.148,14.836 -14.826,15.083 -14.474,15.286 -14.099,15.442 -13.706,15.547 -13.303,15.6 -13.1,15.6 1,15.6 1,14.1 -13.1,14.1 -13.257,14.092 -13.564,14.031 -13.854,13.911 -14.115,13.737 -14.337,13.515 -14.511,13.254 -14.631,12.964 -14.692,12.657 -14.7,12.5 -14.7,-12.5 -14.692,-12.657 -14.631,-12.964 -14.511,-13.254 -14.337,-13.515 -14.115,-13.737 -13.854,-13.911 -13.564,-14.031 -13.257,-14.092 -13.1,-14.1 1,-14.1 1,-15.6 -13.1,-15.6 -13.303,-15.6 -13.706,-15.547 -14.099,-15.442 -14.474,-15.286 -14.826,-15.083 -15.148,-14.836 -15.436,-14.548 -15.683,-14.226 -15.886,-13.874 -16.042,-13.499 -16.147,-13.106 -16.2,-12.703
Top Paste:
  region: -16.2,-12.5 -16.2,12.5 -16.2,12.703 -16.147,13.106 -16.042,13.499 -15.886,13.874 -15.683,14.226 -15.436,14.548 -15.148,14.836 -14.826,15.083 -14.474,15.286 -14.099,15.442 -13.706,15.547 -13.303,15.6 -13.1,15.6 -0.25,15.6 -0.25,14.1 -13.1,14.1 -13.257,14.092 -13.564,14.031 -13.854,13.911 -14.115,13.737 -14.337,13.515 -14.511,13.254 -14.631,12.964 -14.692,12.657 -14.7,12.5 -14.7,-12.5 -14.692,-12.657 -14.631,-12.964 -14.511,-13.254 -14.337,-13.515 -14.115,-13.737 -13.854,-13.911 -13.564,-14.031 -13.257,-14.092 -13.1,-14.1 -0.25,-14.1 -0.25,-15.6 -13.1,-15.6 -13.303,-15.6 -13.706,-15.547 -14.099,-15.442 -14.474,-15.286 -14.826,-15.083 -15.148,-14.836 -15.436,-14.548 -15.683,-14.226 -15.886,-13.874 -16.042,-13.499 -16.147,-13.106 -16.2,-12.703
  region: 16.2,-12.5 16.2,12.5 16.2,12.703 16.147,13.106 16.042,13.499 15.886,13.874 15.683,14.226 15.436,14.548 15.148,14.836 14.826,15.083 14.474,15.286 14.099,15.442 13.706,15.547 13.303,15.6 13.1,15.6 0.25,15.6 0.25,14.1 13.1,14.1 13.257,14.092 13.564,14.031 13.854,13.911 14.115,13.737 14.337,13.515 14.511,13.254 14.631,12.964 14.692,12.657 14.7,12.5 14.7,-12.5 14.692,-12.657 14.631,-12.964 14.511,-13.254 14.337,-13.515 14.115,-13.737 13.854,-13.911 13.564,-14.031 13.257,-14.092 13.1,-14.1 0.25,-14.1 0.25,-15.6 13.1,-15.6 13.303,-15.6 13.706,-15.547 14.099,-15.442 14.474,-15.286 14.826,-15.083 15.148,-14.836 15.436,-14.548 15.683,-14.226 15.886,-13.874 16.042,-13.499 16.147,-13.106 16.2,-12.703
Assembly Notes:
  text "recommended tin paste thickness=0.5mm / customer to define the final stencil gap" at -5.85,-17.15 h0.4
Top Component Outline:
  lines w0.1: -15.6,-12.5 ccw(c-13.1,-12.5) -13.1,-15 13.1,-15 ccw(c13.1,-12.5) 15.6,-12.5 15.6,12.5 ccw(c13.1,12.5) 13.1,15 -13.1,15 ccw(c-13.1,12.5) -15.6,12.5 -15.6,-12.5
Top 3D Body:
  lines w0.1: -15.6,-12.5 ccw(c-13.1,-12.5) -13.1,-15 13.1,-15 ccw(c13.1,-12.5) 15.6,-12.5 15.6,12.5 ccw(c13.1,12.5) 13.1,15 -13.1,15 ccw(c-13.1,12.5) -15.6,12.5 -15.6,-12.5
Top Courtyard:
  lines w0.05: -16.4,-15.8 -16.4,15.8 16.4,15.8 16.4,-15.8 -16.4,-15.8
Top Component Center:
  lines w0.05: -0.5,0 0.5,0 ; 0,-0.5 0,0.5
Top Designator (Mech19):
  text ".Designator" at -7.498,-0.5 h1.5
3D body "3670312.stp": height 5, standoff -0.6, extent -15.6,-15 15.6,15

## 3670320 [mm] "Shielding Cabinet, SMT Frame Seamless, 32x11.3x2mm"
height 2
pads (4):
  rect 1x8 smd paste-2539.97 mask-2222: 1(-15.9,0) 1(15.9,0)
  rect 18x1 smd paste-2539.97 mask-2222: 1(0,-5.55) 1(0,5.55)
Top Layer:
  region: -16.4,-1 -16.4,3.9 -16.4,4.112 -16.317,4.527 -16.155,4.918 -15.92,5.271 -15.621,5.57 -15.268,5.805 -14.877,5.967 -14.462,6.05 -14.25,6.05 14.25,6.05 14.462,6.05 14.877,5.967 15.268,5.805 15.621,5.57 15.92,5.271 16.155,4.918 16.317,4.527 16.4,4.112 16.4,3.9 16.4,-1 15.4,-1 15.4,3.975 15.395,4.08 15.354,4.287 15.273,4.482 15.156,4.657 15.007,4.806 14.832,4.923 14.637,5.004 14.43,5.045 14.325,5.05 -14.325,5.05 -14.43,5.045 -14.637,5.004 -14.832,4.923 -15.007,4.806 -15.156,4.657 -15.273,4.482 -15.354,4.287 -15.395,4.08 -15.4,3.975 -15.4,-1
  region: -16.4,-0.25 -16.4,-3.9 -16.4,-4.112 -16.317,-4.527 -16.155,-4.918 -15.92,-5.271 -15.621,-5.57 -15.268,-5.805 -14.877,-5.967 -14.462,-6.05 -14.25,-6.05 14.25,-6.05 14.462,-6.05 14.877,-5.967 15.268,-5.805 15.621,-5.57 15.92,-5.271 16.155,-4.918 16.317,-4.527 16.4,-4.112 16.4,-3.9 16.4,-0.25 15.4,-0.25 15.4,-3.975 15.395,-4.08 15.354,-4.287 15.273,-4.482 15.156,-4.657 15.007,-4.806 14.832,-4.923 14.637,-5.004 14.43,-5.045 14.325,-5.05 -14.325,-5.05 -14.43,-5.045 -14.637,-5.004 -14.832,-4.923 -15.007,-4.806 -15.156,-4.657 -15.273,-4.482 -15.354,-4.287 -15.395,-4.08 -15.4,-3.975 -15.4,-0.25
Top Paste:
  region: -16.4,-0.25 -16.4,-3.9 -16.4,-4.112 -16.317,-4.527 -16.155,-4.918 -15.92,-5.271 -15.621,-5.57 -15.268,-5.805 -14.877,-5.967 -14.462,-6.05 -14.25,-6.05 14.25,-6.05 14.462,-6.05 14.877,-5.967 15.268,-5.805 15.621,-5.57 15.92,-5.271 16.155,-4.918 16.317,-4.527 16.4,-4.112 16.4,-3.9 16.4,-0.25 15.4,-0.25 15.4,-3.975 15.395,-4.08 15.354,-4.287 15.273,-4.482 15.156,-4.657 15.007,-4.806 14.832,-4.923 14.637,-5.004 14.43,-5.045 14.325,-5.05 -14.325,-5.05 -14.43,-5.045 -14.637,-5.004 -14.832,-4.923 -15.007,-4.806 -15.156,-4.657 -15.273,-4.482 -15.354,-4.287 -15.395,-4.08 -15.4,-3.975 -15.4,-0.25
  region: -16.4,0.25 -16.4,3.9 -16.4,4.112 -16.317,4.527 -16.155,4.918 -15.92,5.271 -15.621,5.57 -15.268,5.805 -14.877,5.967 -14.462,6.05 -14.25,6.05 14.25,6.05 14.462,6.05 14.877,5.967 15.268,5.805 15.621,5.57 15.92,5.271 16.155,4.918 16.317,4.527 16.4,4.112 16.4,3.9 16.4,0.25 15.4,0.25 15.4,3.975 15.395,4.08 15.354,4.287 15.273,4.482 15.156,4.657 15.007,4.806 14.832,4.923 14.637,5.004 14.43,5.045 14.325,5.05 -14.325,5.05 -14.43,5.045 -14.637,5.004 -14.832,4.923 -15.007,4.806 -15.156,4.657 -15.273,4.482 -15.354,4.287 -15.395,4.08 -15.4,3.975 -15.4,0.25
Assembly Notes:
  text "recommended tin paste thickness=0.5mm / customer to define the final stencil gap" at -5.75,-7.6 h0.4
Top Component Outline:
  lines w0.1: -16,-3.9 ccw(c-14.25,-3.9) -14.25,-5.65 14.25,-5.65 ccw(c14.25,-3.9) 16,-3.9 16,3.9 ccw(c14.25,3.9) 14.25,5.65 -14.25,5.65 ccw(c-14.25,3.9) -16,3.9 -16,-3.9
Top 3D Body:
  lines w0.1: -16,-3.9 ccw(c-14.25,-3.9) -14.25,-5.65 14.25,-5.65 ccw(c14.25,-3.9) 16,-3.9 16,3.9 ccw(c14.25,3.9) 14.25,5.65 -14.25,5.65 ccw(c-14.25,3.9) -16,3.9 -16,-3.9
Top Courtyard:
  lines w0.05: -16.6,-6.25 16.6,-6.25 16.6,6.25 -16.6,6.25 -16.6,-6.25
Top Component Center:
  lines w0.05: -0.5,0 0.5,0 ; 0,-0.5 0,0.5
Top Designator (Mech19):
  text ".Designator" at -7.498,-0.5 h1.5
3D body "3670320.stp": height 2, standoff 0, extent -16,-5.65 16,5.65

## 3670321 [mm] "Shielding Cabinet, SMT Frame Seamless, 32.1x16.6x2.5mm"
height 2.5
pads (4):
  rect 1x15 smd paste-2539.97 mask-2222: 1(-15.9,0) 1(15.9,0)
  rect 18x1 smd paste-2539.97 mask-2222: 1(0,-8.15) 1(0,8.15)
Top Layer:
  region: -16.65,-0.25 -16.65,-6.8 -16.65,-7.007 -16.569,-7.413 -16.411,-7.795 -16.181,-8.139 -15.889,-8.431 -15.545,-8.661 -15.163,-8.819 -14.757,-8.9 -14.55,-8.9 14.55,-8.9 14.757,-8.9 15.163,-8.819 15.545,-8.661 15.889,-8.431 16.181,-8.139 16.411,-7.795 16.569,-7.413 16.65,-7.007 16.65,-6.8 16.65,-0.25 15.15,-0.25 15.15,-6.8 15.138,-6.917 15.049,-7.133 14.883,-7.299 14.667,-7.388 14.55,-7.4 -14.55,-7.4 -14.667,-7.388 -14.883,-7.299 -15.049,-7.133 -15.138,-6.917 -15.15,-6.8 -15.15,-0.25
  region: -16.65,-1 -16.65,6.8 -16.65,7.007 -16.569,7.413 -16.411,7.795 -16.181,8.139 -15.889,8.431 -15.545,8.661 -15.163,8.819 -14.757,8.9 -14.55,8.9 14.55,8.9 14.757,8.9 15.163,8.819 15.545,8.661 15.889,8.431 16.181,8.139 16.411,7.795 16.569,7.413 16.65,7.007 16.65,6.8 16.65,-1 15.15,-1 15.15,6.8 15.138,6.917 15.049,7.133 14.883,7.299 14.667,7.388 14.55,7.4 -14.55,7.4 -14.667,7.388 -14.883,7.299 -15.049,7.133 -15.138,6.917 -15.15,6.8 -15.15,-1
Top Paste:
  region: -16.65,0.25 -16.65,6.8 -16.65,7.007 -16.569,7.413 -16.411,7.795 -16.181,8.139 -15.889,8.431 -15.545,8.661 -15.163,8.819 -14.757,8.9 -14.55,8.9 14.55,8.9 14.757,8.9 15.163,8.819 15.545,8.661 15.889,8.431 16.181,8.139 16.411,7.795 16.569,7.413 16.65,7.007 16.65,6.8 16.65,0.25 15.15,0.25 15.15,6.8 15.138,6.917 15.049,7.133 14.883,7.299 14.667,7.388 14.55,7.4 -14.55,7.4 -14.667,7.388 -14.883,7.299 -15.049,7.133 -15.138,6.917 -15.15,6.8 -15.15,0.25
  region: -16.65,-0.25 -16.65,-6.8 -16.65,-7.007 -16.569,-7.413 -16.411,-7.795 -16.181,-8.139 -15.889,-8.431 -15.545,-8.661 -15.163,-8.819 -14.757,-8.9 -14.55,-8.9 14.55,-8.9 14.757,-8.9 15.163,-8.819 15.545,-8.661 15.889,-8.431 16.181,-8.139 16.411,-7.795 16.569,-7.413 16.65,-7.007 16.65,-6.8 16.65,-0.25 15.15,-0.25 15.15,-6.8 15.138,-6.917 15.049,-7.133 14.883,-7.299 14.667,-7.388 14.55,-7.4 -14.55,-7.4 -14.667,-7.388 -14.883,-7.299 -15.049,-7.133 -15.138,-6.917 -15.15,-6.8 -15.15,-0.25
Assembly Notes:
  text "recommended tin paste thickness=0.5mm / customer to define the final stencil gap" at -4.8,-10.55 h0.4
Top Component Outline:
  lines w0.1: -16.05,-6.8 ccw(c-14.55,-6.8) -14.55,-8.3 14.55,-8.3 ccw(c14.55,-6.8) 16.05,-6.8 16.05,6.8 ccw(c14.55,6.8) 14.55,8.3 -14.55,8.3 ccw(c-14.55,6.8) -16.05,6.8 -16.05,-6.8
Top 3D Body:
  lines w0.1: -16.05,-6.8 ccw(c-14.55,-6.8) -14.55,-8.3 14.55,-8.3 ccw(c14.55,-6.8) 16.05,-6.8 16.05,6.8 ccw(c14.55,6.8) 14.55,8.3 -14.55,8.3 ccw(c-14.55,6.8) -16.05,6.8 -16.05,-6.8
Top Courtyard:
  lines w0.05: -16.85,-9.1 16.85,-9.1 16.85,9.1 -16.85,9.1 -16.85,-9.1
Top Component Center:
  lines w0.05: -0.5,0 0.5,0 ; 0,-0.5 0,0.5
Top Designator (Mech19):
  text ".Designator" at -7.498,-0.5 h1.5
3D body "3670321.stp": height 2.5, standoff 0, extent -16.05,-8.3 16.05,8.3

## 3670323 [mm] "Shielding Cabinet, SMT Frame Seamless, 32.3x23.8x3.7mm"
height 3.7
pads (6):
  rect 1x18 smd paste-2539.97 mask-2222: 1(-16,0) 1(16,0)
  oval 2.1x1.5 hole 0.8 slot 1.4 at 0 deg: 1(-11.15,-11.75) 1(11.15,11.75)
  rect 18x1 smd paste-2539.97 mask-2222: 1(0,-11.75) 1(0,11.75)
Top Layer:
  region: -16.75,-1 -16.75,10 -16.75,10.246 -16.654,10.729 -16.465,11.184 -16.192,11.594 -15.844,11.942 -15.434,12.215 -14.979,12.404 -14.496,12.5 -14.25,12.5 14.25,12.5 14.496,12.5 14.979,12.404 15.434,12.215 15.844,11.942 16.192,11.594 16.465,11.184 16.654,10.729 16.75,10.246 16.75,10 16.75,-1 15.25,-1 15.25,10 15.245,10.098 15.207,10.29 15.132,10.471 15.023,10.634 14.884,10.773 14.721,10.882 14.54,10.957 14.348,10.995 14.25,11 -14.25,11 -14.348,10.995 -14.54,10.957 -14.721,10.882 -14.884,10.773 -15.023,10.634 -15.132,10.471 -15.207,10.29 -15.245,10.098 -15.25,10 -15.25,-1
  region: -16.75,-0.25 -16.75,-10 -16.75,-10.246 -16.654,-10.729 -16.465,-11.184 -16.192,-11.594 -15.844,-11.942 -15.434,-12.215 -14.979,-12.404 -14.496,-12.5 -14.25,-12.5 14.25,-12.5 14.496,-12.5 14.979,-12.404 15.434,-12.215 15.844,-11.942 16.192,-11.594 16.465,-11.184 16.654,-10.729 16.75,-10.246 16.75,-10 16.75,-0.25 15.25,-0.25 15.25,-10 15.245,-10.098 15.207,-10.29 15.132,-10.471 15.023,-10.634 14.884,-10.773 14.721,-10.882 14.54,-10.957 14.348,-10.995 14.25,-11 -14.25,-11 -14.348,-10.995 -14.54,-10.957 -14.721,-10.882 -14.884,-10.773 -15.023,-10.634 -15.132,-10.471 -15.207,-10.29 -15.245,-10.098 -15.25,-10 -15.25,-0.25
Top Paste:
  region: -16.75,-0.25 -16.75,-10 -16.75,-10.246 -16.654,-10.729 -16.465,-11.184 -16.192,-11.594 -15.844,-11.942 -15.434,-12.215 -14.979,-12.404 -14.496,-12.5 -14.25,-12.5 14.25,-12.5 14.496,-12.5 14.979,-12.404 15.434,-12.215 15.844,-11.942 16.192,-11.594 16.465,-11.184 16.654,-10.729 16.75,-10.246 16.75,-10 16.75,-0.25 15.25,-0.25 15.25,-10 15.245,-10.098 15.207,-10.29 15.132,-10.471 15.023,-10.634 14.884,-10.773 14.721,-10.882 14.54,-10.957 14.348,-10.995 14.25,-11 -14.25,-11 -14.348,-10.995 -14.54,-10.957 -14.721,-10.882 -14.884,-10.773 -15.023,-10.634 -15.132,-10.471 -15.207,-10.29 -15.245,-10.098 -15.25,-10 -15.25,-0.25
  region: -16.75,0.25 -16.75,10 -16.75,10.246 -16.654,10.729 -16.465,11.184 -16.192,11.594 -15.844,11.942 -15.434,12.215 -14.979,12.404 -14.496,12.5 -14.25,12.5 14.25,12.5 14.496,12.5 14.979,12.404 15.434,12.215 15.844,11.942 16.192,11.594 16.465,11.184 16.654,10.729 16.75,10.246 16.75,10 16.75,0.25 15.25,0.25 15.25,10 15.245,10.098 15.207,10.29 15.132,10.471 15.023,10.634 14.884,10.773 14.721,10.882 14.54,10.957 14.348,10.995 14.25,11 -14.25,11 -14.348,10.995 -14.54,10.957 -14.721,10.882 -14.884,10.773 -15.023,10.634 -15.132,10.471 -15.207,10.29 -15.245,10.098 -15.25,10 -15.25,0.25
Assembly Notes:
  text "recommended tin paste thickness=0.5mm / customer to define the final stencil gap" at -6.25,-14.15 h0.4
Top Component Outline:
  lines w0.1: -16.15,-9.9 ccw(c-14.15,-9.9) -14.15,-11.9 14.15,-11.9 ccw(c14.15,-9.9) 16.15,-9.9 16.15,9.9 ccw(c14.15,9.9) 14.15,11.9 -14.15,11.9 ccw(c-14.15,9.9) -16.15,9.9 -16.15,-9.9
Top 3D Body:
  lines w0.1: -16.15,-9.9 ccw(c-14.15,-9.9) -14.15,-11.9 14.15,-11.9 ccw(c14.15,-9.9) 16.15,-9.9 16.15,9.9 ccw(c14.15,9.9) 14.15,11.9 -14.15,11.9 ccw(c-14.15,9.9) -16.15,9.9 -16.15,-9.9
Top Courtyard:
  lines w0.05: -16.95,-12.7 16.95,-12.7 16.95,12.7 -16.95,12.7 -16.95,-12.7
Top Component Center:
  lines w0.05: -0.5,0 0.5,0 ; 0,-0.5 0,0.5
Top Designator (Mech19):
  text ".Designator" at -7.498,-0.5 h1.5
3D body "3670323.stp": height 3.7, standoff -1.2, extent -16.15,-11.9 16.15,11.9

## 3670329 [mm] "Shielding Cabinet, SMT Frame Seamless, 32.9x20.7x2.5mm"
height 2.5
pads (4):
  rect 1x18 smd paste-2539.97 mask-2222: 1(-16.3,0) 1(16.3,0)
  rect 18x1 smd paste-2539.97 mask-2222: 1(0,-10.2) 1(0,10.2)
Top Layer:
  region: -17.05,-1 -17.05,8.85 -17.05,9.057 -16.969,9.463 -16.811,9.845 -16.581,10.189 -16.289,10.481 -15.945,10.711 -15.563,10.869 -15.157,10.95 -14.95,10.95 14.95,10.95 15.157,10.95 15.563,10.869 15.945,10.711 16.289,10.481 16.581,10.189 16.811,9.845 16.969,9.463 17.05,9.057 17.05,8.85 17.05,-1 15.55,-1 15.55,8.85 15.538,8.967 15.449,9.183 15.283,9.349 15.067,9.438 14.95,9.45 -14.95,9.45 -15.067,9.438 -15.283,9.349 -15.449,9.183 -15.538,8.967 -15.55,8.85 -15.55,-1
  region: -17.05,-0.25 -17.05,-8.85 -17.05,-9.057 -16.969,-9.463 -16.811,-9.845 -16.581,-10.189 -16.289,-10.481 -15.945,-10.711 -15.563,-10.869 -15.157,-10.95 -14.95,-10.95 14.95,-10.95 15.157,-10.95 15.563,-10.869 15.945,-10.711 16.289,-10.481 16.581,-10.189 16.811,-9.845 16.969,-9.463 17.05,-9.057 17.05,-8.85 17.05,-0.25 15.55,-0.25 15.55,-8.85 15.538,-8.967 15.449,-9.183 15.283,-9.349 15.067,-9.438 14.95,-9.45 -14.95,-9.45 -15.067,-9.438 -15.283,-9.349 -15.449,-9.183 -15.538,-8.967 -15.55,-8.85 -15.55,-0.25
Top Paste:
  region: -17.05,-0.25 -17.05,-8.85 -17.05,-9.057 -16.969,-9.463 -16.811,-9.845 -16.581,-10.189 -16.289,-10.481 -15.945,-10.711 -15.563,-10.869 -15.157,-10.95 -14.95,-10.95 14.95,-10.95 15.157,-10.95 15.563,-10.869 15.945,-10.711 16.289,-10.481 16.581,-10.189 16.811,-9.845 16.969,-9.463 17.05,-9.057 17.05,-8.85 17.05,-0.25 15.55,-0.25 15.55,-8.85 15.538,-8.967 15.449,-9.183 15.283,-9.349 15.067,-9.438 14.95,-9.45 -14.95,-9.45 -15.067,-9.438 -15.283,-9.349 -15.449,-9.183 -15.538,-8.967 -15.55,-8.85 -15.55,-0.25
  region: -17.05,0.25 -17.05,8.85 -17.05,9.057 -16.969,9.463 -16.811,9.845 -16.581,10.189 -16.289,10.481 -15.945,10.711 -15.563,10.869 -15.157,10.95 -14.95,10.95 14.95,10.95 15.157,10.95 15.563,10.869 15.945,10.711 16.289,10.481 16.581,10.189 16.811,9.845 16.969,9.463 17.05,9.057 17.05,8.85 17.05,0.25 15.55,0.25 15.55,8.85 15.538,8.967 15.449,9.183 15.283,9.349 15.067,9.438 14.95,9.45 -14.95,9.45 -15.067,9.438 -15.283,9.349 -15.449,9.183 -15.538,8.967 -15.55,8.85 -15.55,0.25
Assembly Notes:
  text "recommended tin paste thickness=0.5mm / customer to define the final stencil gap" at -5.85,-12.5 h0.4
Top Component Outline:
  lines w0.1: -16.45,-8.85 ccw(c-14.95,-8.85) -14.95,-10.35 14.95,-10.35 ccw(c14.95,-8.85) 16.45,-8.85 16.45,8.85 ccw(c14.95,8.85) 14.95,10.35 -14.95,10.35 ccw(c-14.95,8.85) -16.45,8.85 -16.45,-8.85
Top 3D Body:
  lines w0.1: -16.45,-8.85 ccw(c-14.95,-8.85) -14.95,-10.35 14.95,-10.35 ccw(c14.95,-8.85) 16.45,-8.85 16.45,8.85 ccw(c14.95,8.85) 14.95,10.35 -14.95,10.35 ccw(c-14.95,8.85) -16.45,8.85 -16.45,-8.85
Top Courtyard:
  lines w0.05: -17.25,-11.15 -17.25,11.15 17.25,11.15 17.25,-11.15 -17.25,-11.15
Top Component Center:
  lines w0.05: -0.5,0 0.5,0 ; 0,-0.5 0,0.5
Top Designator (Mech19):
  text ".Designator" at -7.498,-0.5 h1.5
3D body "3670329.stp": height 2.5, standoff 0, extent -16.45,-10.35 16.45,10.35